# Altium footprint library Connectors.PcbLib: 76 footprints (part 4 of 5)
Each footprint in its own frame and in the unit in brackets; x right, y up, seen from the top. Pads: shape width x height; smd on the part's side, far side on the other; paste and mask are expansions set on the pad; w line width, h text height; cw(c..) or ccw(c..) is an arc to the next point about the centre after c.
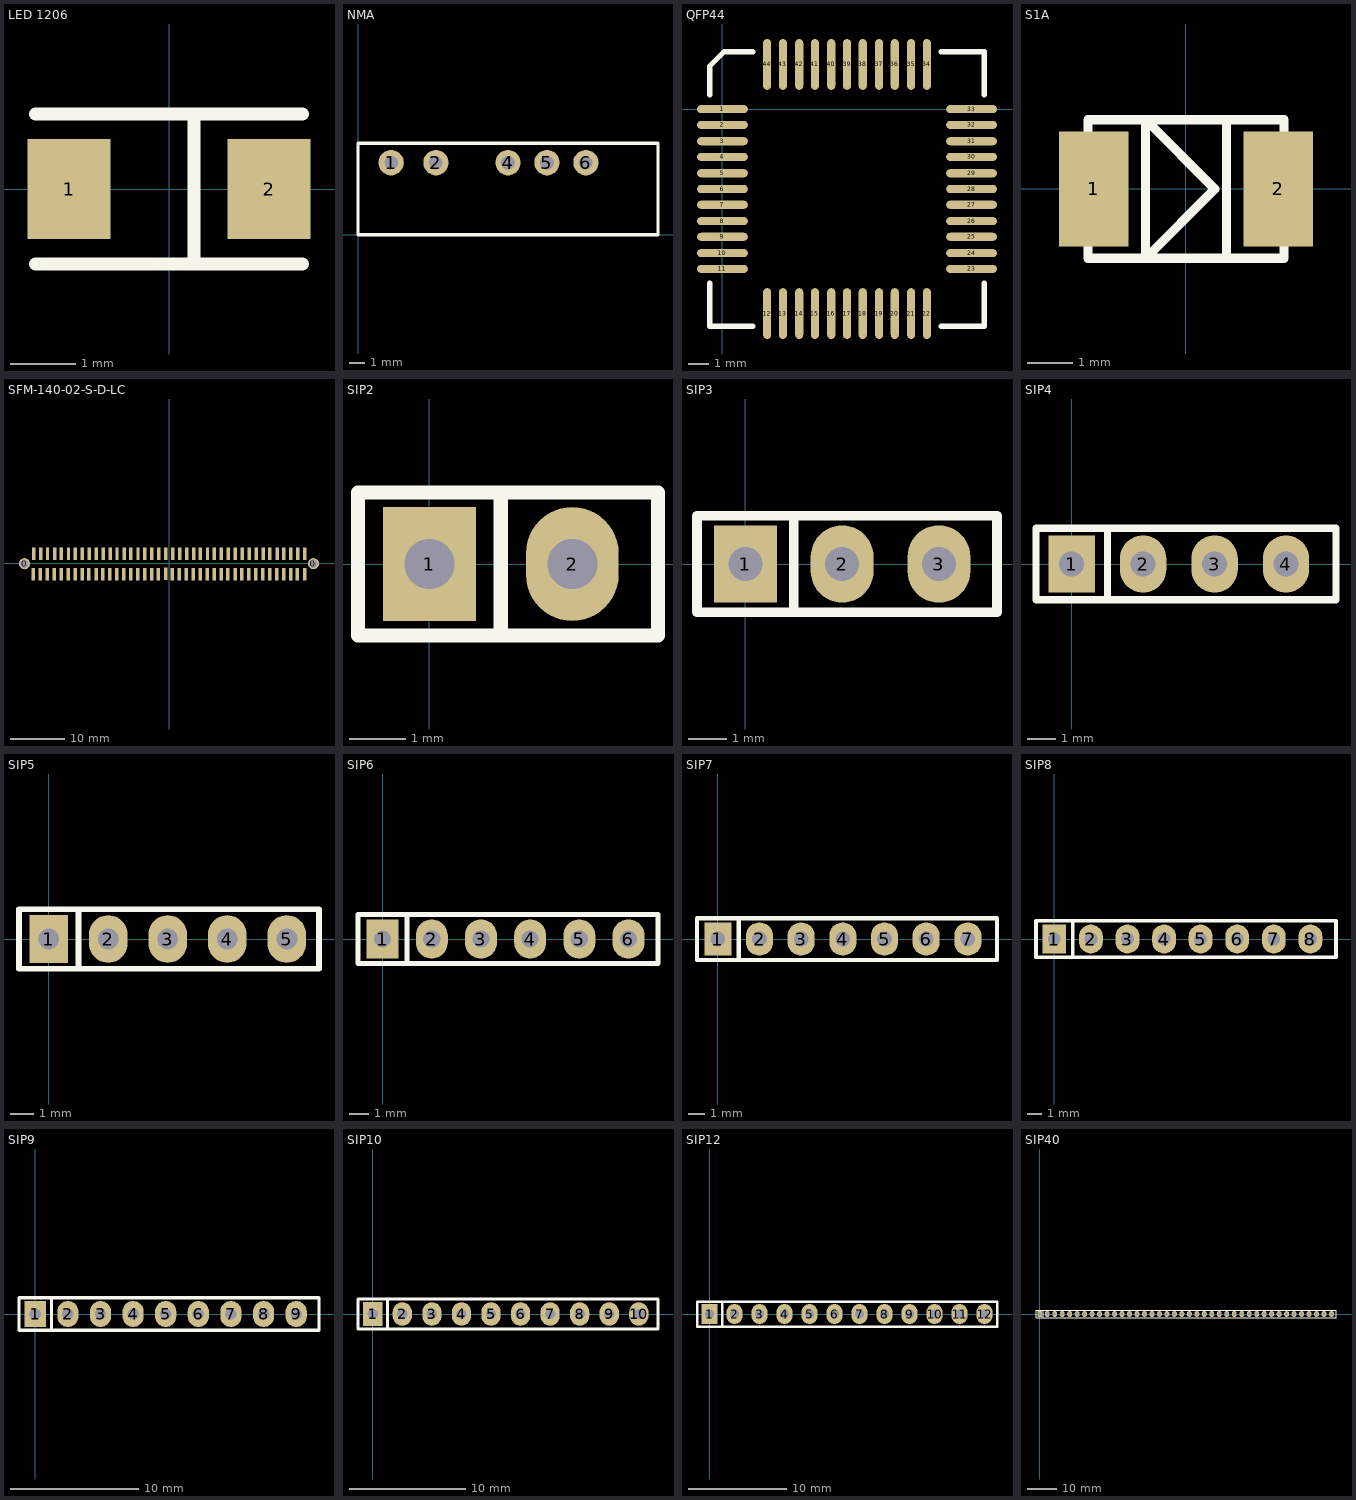
[diagram p3: the footprints below, top view; thin cyan lines are the x and y axes]

## LED 1206 [mil] "LED 1206 footprint only"
height 25
pads (2):
  rect 50x60 smd: 1(-60,0) 2(60,0)
Top Overlay:
  lines w8: -80,-45 80,-45 ; -80,45 80,45 ; 15,-45 15,45

## NMA [mil]
pads (5):
  round 65 / inner round 35 / far side round 65 hole 35: 1(85,185) 2(200,185) 4(385,185) 5(485,185) 6(585,185)
Top Overlay:
  lines w8: 0,0 770,0 770,235 0,235 0,0

## QFP44 [mil]
pads (44):
  oval 100x16 smd: 1(0,0) 2(0,-31) 3(0,-63) 4(0,-94) 5(0,-126) 6(0,-157) 7(0,-188) 8(0,-220) 9(0,-251) 10(0,-283) 11(0,-314) 23(490,-314) 24(490,-283) 25(490,-251) 26(490,-220) 27(490,-188) 28(490,-157) 29(490,-126) 30(490,-94) 31(490,-63) 32(490,-31) 33(490,0)
  oval 16x100 smd: 12(88,-402) 13(119,-402) 14(151,-402) 15(182,-402) 16(214,-402) 17(245,-402) 18(276,-402) 19(308,-402) 20(339,-402) 21(371,-402) 22(402,-402) 34(402,88) 35(371,88) 36(339,88) 37(308,88) 38(276,88) 39(245,88) 40(214,88) 41(182,88) 42(151,88) 43(119,88) 44(88,88)
Top Overlay:
  lines w10: -25,-342 -25,-427 60,-427 ; -25,28 -25,85 3,113 60,113 ; 430,-427 515,-427 515,-342 ; 430,113 515,113 515,28

## S1A [mil]
pads (2):
  rect 60x100 smd: 1(-80,0) 2(80,0)
Top Overlay:
  lines w8: -85,-50 -85,-60 85,-60 85,-50 ; -85,50 -85,60 85,60 85,50 ; 35,-60 35,60 ; -35,-60 25,0 -35,60 -35,-60

## SFM-140-02-S-D-LC [mil]
pads (82):
  round 80 hole 60: 0(-1039,-2) 0(1039,-2)
  rect 25x90 smd: 1(975,-76) 2(977,68) 3(924,-76) 4(926,68) 5(875,-76) 6(877,68) 7(824,-76) 8(826,68) 9(775,-76) 10(777,68) 11(724,-76) 12(726,68) 13(675,-76) 14(677,68) 15(624,-76) 16(626,68) 17(575,-76) 18(577,68) 19(524,-76) 20(526,68) 21(475,-76) 22(477,68) 23(424,-76) 24(426,68) 25(375,-76) 26(377,68) 27(324,-76) 28(326,68) 29(275,-76) 30(277,68) 31(224,-76) 32(226,68) 33(175,-76) 34(177,68) 35(124,-76) 36(126,68) 37(75,-76) 38(77,68) 39(24,-76) 40(26,68) 41(-25,-75) 42(-23,68) 43(-76,-76) 44(-74,68) 45(-125,-76) 46(-123,68) 47(-176,-76) 48(-174,68) 49(-225,-76) 50(-223,68) 51(-276,-76) 52(-274,68) 53(-325,-76) 54(-323,68) 55(-376,-76) 56(-374,68) 57(-425,-76) 58(-423,68) 59(-476,-76) 60(-474,68) 61(-525,-76) 62(-523,68) 63(-576,-76) 64(-574,68) 65(-625,-76) 66(-623,68) 67(-676,-76) 68(-674,68) 69(-725,-76) 70(-723,68) 71(-776,-76) 72(-774,68) 73(-825,-76) 74(-823,68) 75(-876,-76) 76(-874,68) 77(-925,-76) 78(-923,68) 79(-976,-76) 80(-974,68)
3D body: height 180, standoff -60.85, extent -1077,-87.75 1078,79.75

## SIP2 [mil]
pads (2):
  rect 65x80 / inner round 35 / far side rect 65x80 hole 35: 1(0,0)
  oval 65x80 / inner round 35 / far side oval 65x80 hole 35: 2(100,0)
Top Overlay:
  lines w10: 50,-50 50,50 ; -50,-50 160,-50 160,50 -50,50 -50,-50

## SIP3 [mil] "Single inline header"
pads (3):
  rect 65x80 / inner round 35 / far side rect 65x80 hole 35: 1(0,0)
  oval 65x80 / inner round 35 / far side oval 65x80 hole 35: 2(100,0) 3(200,0)
Top Overlay:
  lines w10: 50,-50 50,50 ; -50,-50 260,-50 260,50 -50,50 -50,-50

## SIP4 [mil]
pads (4):
  rect 65x80 / inner round 35 / far side rect 65x80 hole 35: 1(0,0)
  oval 65x80 / inner round 35 / far side oval 65x80 hole 35: 2(100,0) 3(200,0) 4(300,0)
Top Overlay:
  lines w10: 50,-50 50,50 ; -50,-50 -50,50 370,50 370,-50 -50,-50

## SIP5 [mil]
pads (5):
  rect 65x80 / inner round 35 / far side rect 65x80 hole 35: 1(0,0)
  oval 65x80 / inner round 35 / far side oval 65x80 hole 35: 2(100,0) 3(200,0) 4(300,0) 5(400,0)
Top Overlay:
  lines w10: 50,-50 50,50 ; -50,-50 -50,50 454,50 454,-50 -50,-50

## SIP6 [mil]
pads (6):
  rect 65x80 / inner round 35 / far side rect 65x80 hole 35: 1(0,0)
  oval 65x80 / inner round 35 / far side oval 65x80 hole 35: 2(100,0) 3(200,0) 4(300,0) 5(400,0) 6(500,0)
Top Overlay:
  lines w10: 50,-50 50,50 ; -50,-50 560,-50 560,50 -50,50 -50,-50

## SIP7 [mil] "SIP Header Con 7"
pads (7):
  rect 65x80 / inner round 35 / far side rect 65x80 hole 35: 1(0,0)
  oval 65x80 / inner round 35 / far side oval 65x80 hole 35: 2(100,0) 3(200,0) 4(300,0) 5(400,0) 6(500,0) 7(600,0)
Top Overlay:
  lines w10: 50,-50 50,50 ; -50,-50 670,-50 670,50 -50,50 -50,-50

## SIP8 [mil] "SIP header"
pads (8):
  rect 65x80 / inner round 35 / far side rect 65x80 hole 35: 1(0,0)
  oval 65x80 / inner round 35 / far side oval 65x80 hole 35: 2(100,0) 3(200,0) 4(300,0) 5(400,0) 6(500,0) 7(600,0) 8(700,0)
Top Overlay:
  lines w10: 50,-50 50,50 ; -50,-50 770,-50 770,50 -50,50 -50,-50

## SIP9 [mil] "SIP Header"
pads (9):
  rect 65x80 / inner round 35 / far side rect 65x80 hole 35: 1(0,0)
  oval 65x80 / inner round 35 / far side oval 65x80 hole 35: 2(100,0) 3(200,0) 4(300,0) 5(400,0) 6(500,0) 7(600,0) 8(700,0) 9(800,0)
Top Overlay:
  lines w10: 50,-50 50,50 ; -50,-50 870,-50 870,50 -50,50 -50,-50

## SIP10 [mil]
pads (10):
  rect 65x80 / inner round 35 / far side rect 65x80 hole 35: 1(0,0)
  oval 65x80 / inner round 35 / far side oval 65x80 hole 35: 2(100,0) 3(200,0) 4(300,0) 5(400,0) 6(500,0) 7(600,0) 8(700,0) 9(800,0) 10(900,0)
Top Overlay:
  lines w10: 50,-50 50,50 ; -50,-50 -50,50 965,50 965,-50 -50,-50

## SIP12 [mil]
pads (12):
  rect 65x80 / inner round 35 / far side rect 65x80 hole 35: 1(0,0)
  oval 65x80 / inner round 35 / far side oval 65x80 hole 35: 2(100,0) 3(200,0) 4(300,0) 5(400,0) 6(500,0) 7(600,0) 8(700,0) 9(800,0) 10(900,0) 11(1000,0) 12(1100,0)
Top Overlay:
  lines w10: 50,-50 50,50 ; -50,-50 -50,50 1150,50 1150,-50 -50,-50

## SIP40 [mil]
pads (40):
  rect 65x80 hole 39: 1(0,0)
  oval 65x80 hole 39: 2(100,0) 3(200,0) 4(300,0) 5(400,0) 6(500,0) 7(600,0) 8(700,0) 9(800,0) 10(900,0) 11(1000,0) 12(1100,0) 13(1200,0) 14(1300,0) 15(1400,0) 16(1500,0) 17(1600,0) 18(1700,0) 19(1800,0) 20(1900,0) 21(2000,0) 22(2100,0) 23(2200,0) 24(2300,0) 25(2400,0) 26(2500,0) 27(2600,0) 28(2700,0) 29(2800,0) 30(2900,0) 31(3000,0) 32(3100,0) 33(3200,0) 34(3300,0) 35(3400,0) 36(3500,0) 37(3600,0) 38(3700,0) 39(3800,0) 40(3900,0)
Top Overlay:
  lines w10: 50,-50 50,50 ; -50,-50 3960,-50 3960,50 -50,50 -50,-50